# EAGLE library part AD1877 (library analog-devices)
Single-Supply 16-Bit Stereo ADC Source: http://www.analog.com/static/imported-files/data_sheets/AD1877.pdf
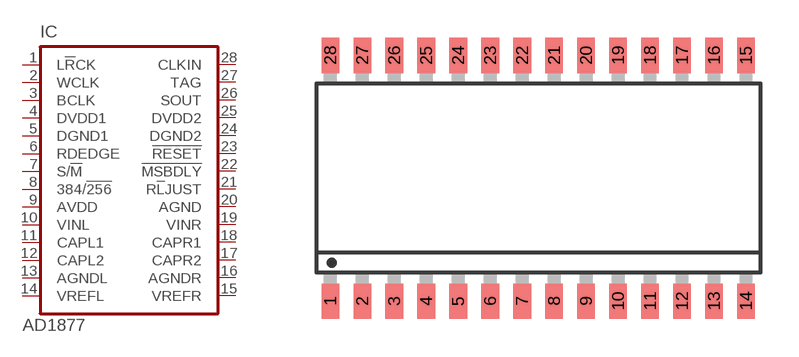
[diagram p4: symbol with the pads of SO-28R; footprint SO-28R]

Designator prefix IC

## AD1877 (MPN: AD1877JRZ; OC_FARNELL: 1438337; OC_NEWARK: 12M8449)  [SO-28R]
1  L!R!CK
2  WCLK
3  BCLK
4  DVDD1  in
5  DGND1  in
6  RDEDGE  in
7  S/!M  in
8  384/!256  in
9  AVDD  in
10  VINL  in
11  CAPL1  out
12  CAPL2  out
13  AGNDL  in
14  VREFL  out
15  VREFR  out
16  AGNDR  in
17  CAPR2  out
18  CAPR1  out
19  VINR  in
20  AGND  in
21  R!L!JUST  in
22  !MSBDLY  in
23  !RESET  in
24  DGND2  in
25  DVDD2  in
26  SOUT  out
27  TAG  out
28  CLKIN  in

## Footprint SO-28R (pad centres in mm)
R-28 (S-Suffix) 28-Lead Wide-Body SO SOL-28 Source: http://www.analog.com/static/imported-files/data_sheets/AD1877.pdf
smd 0.7 x 1.4: 1 -8.255,-4.88; 2 -6.985,-4.88; 3 -5.715,-4.88; 4 -4.445,-4.88; 5 -3.175,-4.88; 6 -1.905,-4.88; 7 -0.635,-4.88; 8 0.635,-4.88; 9 1.905,-4.88; 10 3.175,-4.88; 11 4.445,-4.88; 12 5.715,-4.88; 13 6.985,-4.88; 14 8.255,-4.88; 15 8.255,4.88; 16 6.985,4.88; 17 5.715,4.88; 18 4.445,4.88; 19 3.175,4.88; 20 1.905,4.88; 21 0.635,4.88; 22 -0.635,4.88; 23 -1.905,4.88; 24 -3.175,4.88; 25 -4.445,4.88; 26 -5.715,4.88; 27 -6.985,4.88; 28 -8.255,4.88